# EAGLE library part TERMBLK_6PIN (library UPenn)
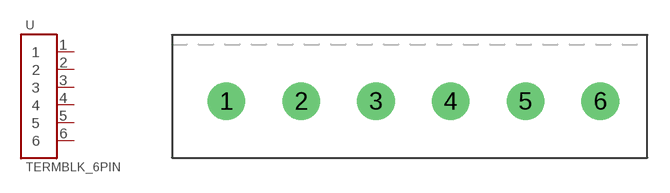
[diagram p3: symbol with the pads of TERMBLK_6PIN_0; footprint TERMBLK_6PIN_0]

Designator prefix -

## TERMBLK_6PIN_SILK  [TERMBLK_6PIN_0]
1  1
2  2
3  3
4  4
5  5
6  6

## Footprint TERMBLK_6PIN_0 (pad centres in mm)
drill 1.702 pad 2.362: 1 -12.7,0; 2 -7.62,0; 3 -2.54,0; 4 2.54,0; 5 7.62,0; 6 12.7,0